# Altium footprint library SM_SW_1571300-2.PcbLib: 1 footprints
Each footprint in its own frame and in the unit in brackets; x right, y up, seen from the top. Pads: shape width x height; smd on the part's side, far side on the other; paste and mask are expansions set on the pad; w line width, h text height; cw(c..) or ccw(c..) is an arc to the next point about the centre after c.
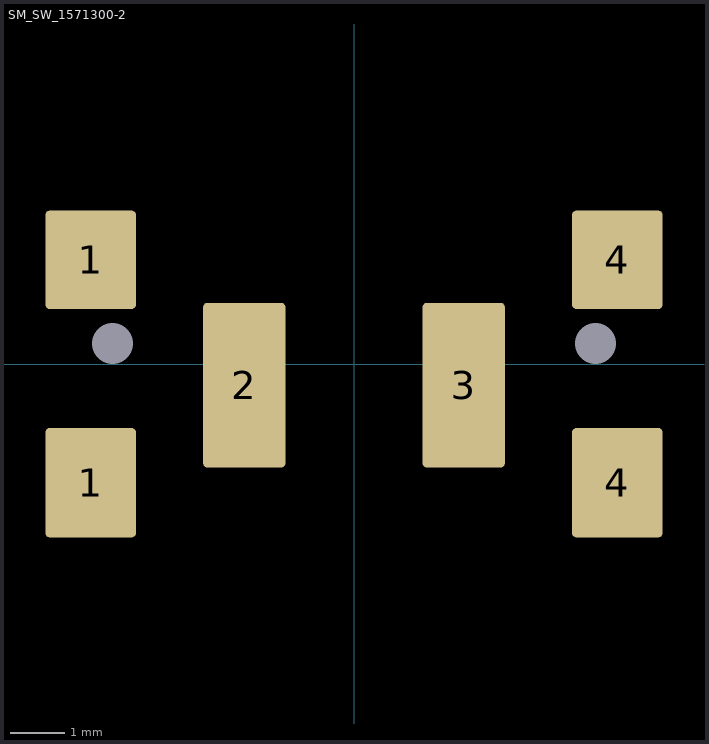
[diagram p0: the footprint, top view; thin cyan lines are the x and y axes]

## SM_SW_1571300-2 [mm]
height 6.4
pads (8):
  rrect10% 1.65x2 smd: 1(-4.8,-2.159) 4(4.8,-2.159)
  rrect10% 1.65x1.8 smd: 1(-4.8,1.905) 4(4.8,1.905)
  rrect50% 0x0 hole 0.75 unplated: 1(-4.4,0.381)
  rrect10% 1.5x3 smd: 2(-2,-0.381) 3(2,-0.381)
  round 0 hole 0.75 unplated: 4(4.4,0.381)
Top Paste:
  region: -4.019,0
3D body "c-1571300-2-h-3d.stp": height 8.1, standoff -0.5, extent -4.85,-6.339 4.85,1.861